# Altium footprint library RF-Receiver.PcbLib: 1 footprints
Each footprint in its own frame and in the unit in brackets; x right, y up, seen from the top. Pads: shape width x height; smd on the part's side, far side on the other; paste and mask are expansions set on the pad; w line width, h text height; cw(c..) or ccw(c..) is an arc to the next point about the centre after c.
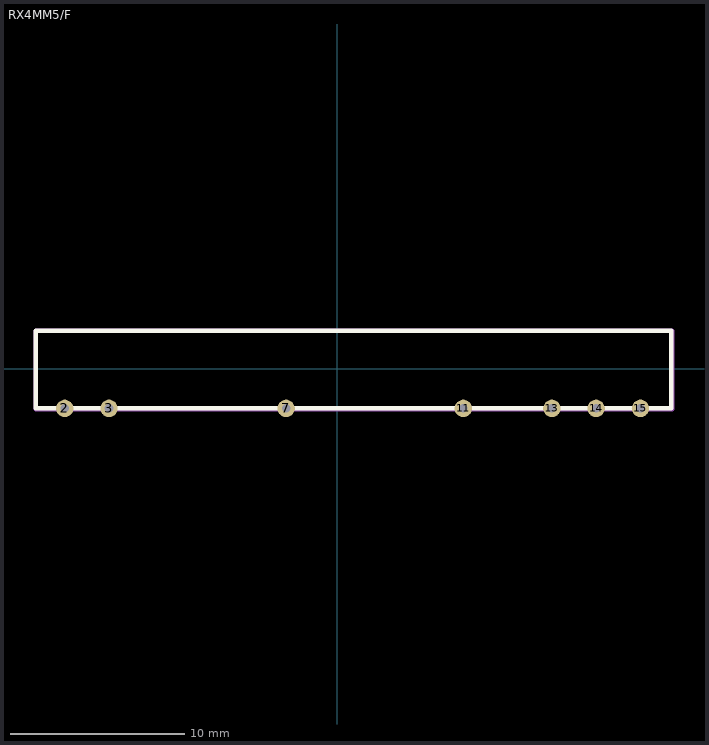
[diagram p0: the footprint, top view; thin cyan lines are the x and y axes]

## RX4MM5/F [mm] "RF Signal Receiver"
pads (7):
  round 1 hole 0.5: 2(-15.621,-2.286) 3(-13.081,-2.286) 7(-2.921,-2.286) 11(7.239,-2.286) 13(12.319,-2.286) 14(14.859,-2.286) 15(17.399,-2.286)
Top Overlay:
  lines w0.254: -16.129,-2.286 -17.272,-2.286 -17.272,2.159 19.177,2.159 19.177,-2.286 17.907,-2.286 ; -15.113,-2.286 -13.589,-2.286 ; -12.573,-2.286 -3.429,-2.286 ; -2.413,-2.286 6.731,-2.286 ; 7.747,-2.286 11.811,-2.286 ; 12.827,-2.286 14.351,-2.286 ; 15.367,-2.286 16.891,-2.286
Mechanical 1:
  lines w0.254: -17.28,-2.341 19.22,-2.341 19.22,2.159 -17.28,2.159 -17.28,-2.341